# EAGLE library part ED555/07 (library con-ost)
HEADER
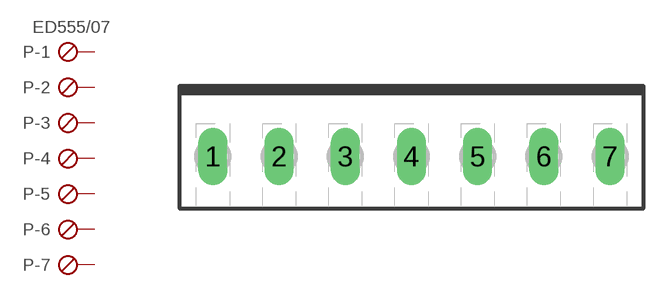
[diagram p19: symbol with the pads of ED555/07; footprint ED555/07]

Designator prefix P; gates -1=KLV-1 -2=KL-1 -3=KL-1 -4=KL-1 -5=KL-1 -6=KL-1 -7=KL-1

## ED555/07  [ED555/07]
1  -1:P  pas
2  -2:P  pas
3  -3:P  pas
4  -4:P  pas
5  -5:P  pas
6  -6:P  pas
7  -7:P  pas

## Footprint ED555/07 (pad centres in mm)
SCREW TERMINAL 3.5mm
drill 1.016 long: 1 -10.5,0; 2 -7,0; 3 -3.5,0; 4 0,0; 5 3.5,0; 6 7,0; 7 10.5,0